# Altium footprint library Lab11.PcbLib: 9 footprints
Each footprint in its own frame and in the unit in brackets; x right, y up, seen from the top. Pads: shape width x height; smd on the part's side, far side on the other; paste and mask are expansions set on the pad; w line width, h text height; cw(c..) or ccw(c..) is an arc to the next point about the centre after c.
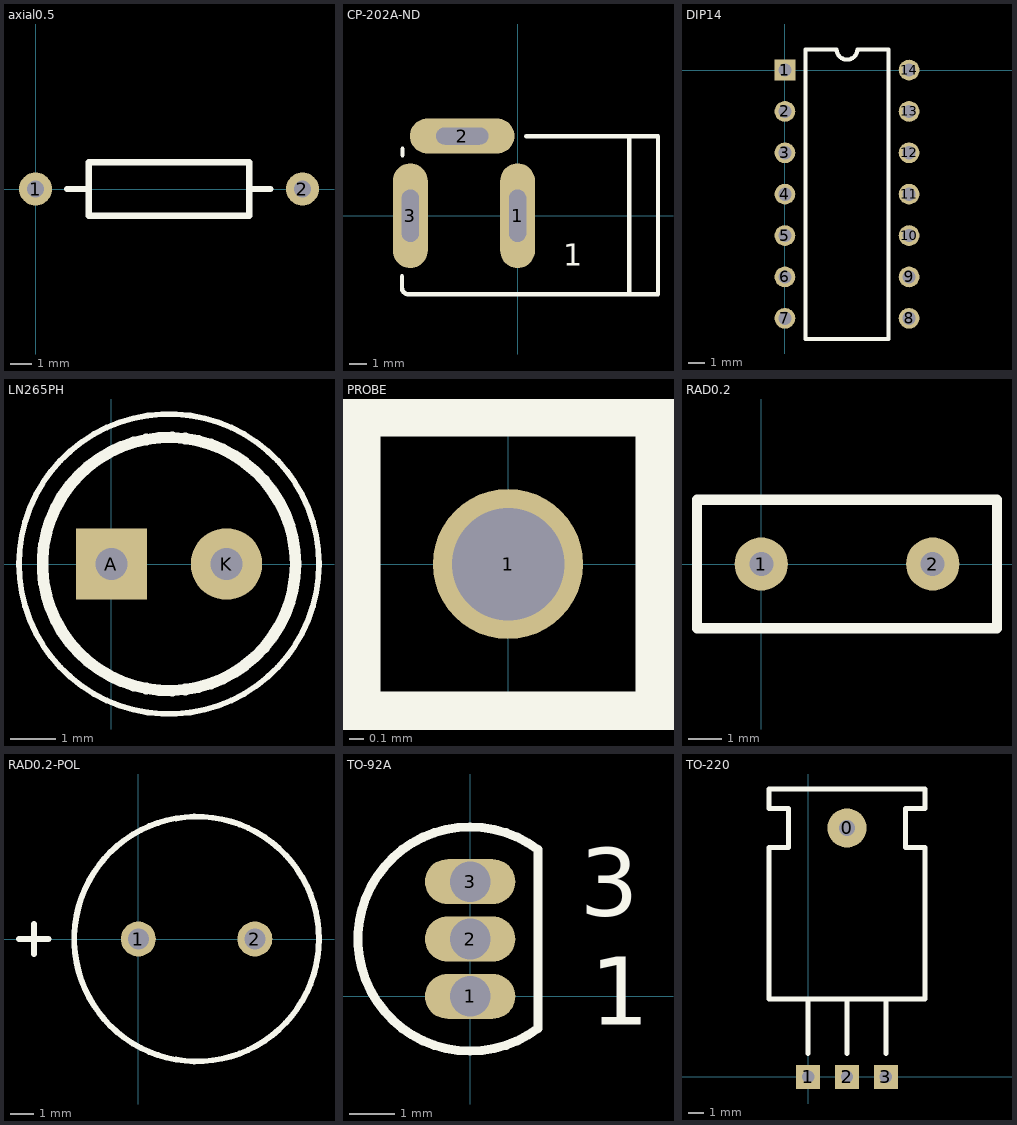
[diagram p0: the footprints below, top view; thin cyan lines are the x and y axes]

## axial0.5 [mil]
pads (2):
  round 62 hole 32: 1(0,0) 2(500,0)
Top Overlay:
  lines w12: 59,0 100,0 ; 401,0 440,0 ; 100,-50 400,-50 400,50 100,50 100,-50
3D body "axial0.5.step": height 179.09, standoff -190, extent -13.76,-74.82 515.76,72.82

## CP-202A-ND [mil]
pads (3):
  oval 80x240 hole 39 slot 120 at 90 deg: 1(0,0) 3(-246.06,0)
  oval 240x80 hole 39 slot 120 at 0 deg: 2(-127.06,182.83)
Top Overlay:
  lines w10: -265,-139 -265,-166 ccw(c-251.4,-166) -251.4,-179.6 ; -264,139 -264,154 ; -253.4,-180.17 300.96,-180.17 ; 20,182 322,182 322,-180.17 298,-180.17 ; 255.9,-177.17 255.9,178.15
  text "1" at 105,-115 h50
3D body "PowerJack-DC-2.5mm-RT.stp": height 437.17, standoff -133.7, extent -272,-179.04 294.93,191.04

## DIP14 [mil]
pads (14):
  rect 50x50 hole 32: 1(0,0)
  round 50 hole 32: 2(0,-100) 3(0,-200) 4(0,-300) 5(0,-400) 6(0,-500) 7(0,-600) 8(300,-600) 9(300,-500) 10(300,-400) 11(300,-300) 12(300,-200) 13(300,-100) 14(300,0)
Top Overlay:
  lines w10: 50,-650 250,-650 250,50 175,50 cw(c150,50) 125,50 50,50 50,-650
3D body "CircuitWorks-DIP-14.step": height 159.45, standoff -115.35, extent -7.48,-676 307.48,74

## LN265PH [mil]
pads (2):
  rect 62x62 hole 28: A(0,0)
  round 62 hole 28: K(100,0)
Top Overlay:
  circle w5: c50,0 r130.38
  circle w10: c50,0 r110
3D body "LED.step": height 207.64, standoff -268.74, extent -10.84,-59.06 108.84,59.06

## PROBE [mil]
pads (1):
  round 40 hole 30: 1(0,0)
Top Overlay:
  lines w12: -40,-40 40,-40 40,40 -40,40 -40,-40
3D body: height 20, standoff -100, extent -12,-12 12,12
3D body: height 300, standoff 0, extent -33,-33 33,33
3D body: height 220, standoff 180, extent -431.69,-18.94 -31.69,21.06

## RAD0.2 [mil]
pads (2):
  round 62 hole 28: 1(0,0) 2(200,0)
Top Overlay:
  lines w12: -75,-75 -75,75 275,75 275,-75 -75,-75
3D body "CAP-Rad0.2-NPL.step": height 290, standoff -88.74, extent -11,-60.5 209,64.5

## RAD0.2-POL [mm] "Capacitor (Radial); 2 Leads"
pads (2):
  round 1.5 hole 0.9: 1(0,0) 2(5,0)
Top Overlay:
  circle w0.25: c2.5,0 r5.25
  lines w0.254: -5.12,0 -3.85,0 ; -4.485,-0.635 -4.485,0.635
Mechanical 1:
  circle w0.02: c2.5,0 r5.25
3D body "CAP-Rad0.2-POL.step": height 20.35, standoff -4.47, extent -2.5,-4.997 7.5,4.997

## TO-92A [mm]
pads (3):
  oval 2x1 hole 0.9: 1(0,0) 2(0,1.27) 3(0,2.54)
Top Overlay:
  lines w0.2: 1.5,-0.71 cw(c0,1.27) 1.5,3.25 1.5,-0.71
  text "3" at 2.43,1.78 h1.5
  text "1" at 2.66,-0.63 h1.5
3D body "TO-92A.STEP": height 5.17, standoff -7.83, extent -2.616,-1.292 1.587,3.934

## TO-220 [mil]
pads (4):
  round 100 hole 40: 0(100,639)
  rect 62x62 hole 32: 1(0,0) 2(100,0) 3(200,0)
Top Overlay:
  lines w12: -100,586 -100,200 300,200 300,589 250,589 250,689 300,689 300,739 -100,739 -100,689 -50,689 -50,589 -100,589 ; 0,60 0,200 ; 100,60 100,200 ; 200,60 200,200
3D body "TO-220 right-angle.step": height 172.35, standoff -111.11, extent -100,-9.84 300,757.48